# Altium integrated library RASM722PTR13X.IntLib: 1 symbol
Pins are listed as number, name and electrical type; pins without a type are passive.

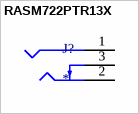
[diagram p0: symbol RASM722PTR13X]

## RASM722PTR13X
designator J?
Power Barrel Connector Jack 2.10mm ID (0.083), 5.50mm OD (0.217) Surface Mount, Right Angle; MF: Switchcraft Inc.; MP: RASM722PTR13X; SnapEDA_Link: https://www.snapeda.com/parts/RASM722PTR13X/SWITCHCRAFT/view-part/?ref=snap; Package: None; Value: *; Check_prices: https://www.snapeda.com/parts/RASM722PTR13X/SWITCHCRAFT/view-part/?ref=eda
footprint SWITCHCRAFT_RASM722PTR13X
pins: 1 TIP, 2 SLEEVE, 3 SHUNT